# Altium footprint library MergenElektronik_Capacitors_AluminumElectrolytics_THTs.PcbLib: 1 footprints
Each footprint in its own frame and in the unit in brackets; x right, y up, seen from the top. Pads: shape width x height; smd on the part's side, far side on the other; paste and mask are expansions set on the pad; w line width, h text height; cw(c..) or ccw(c..) is an arc to the next point about the centre after c.
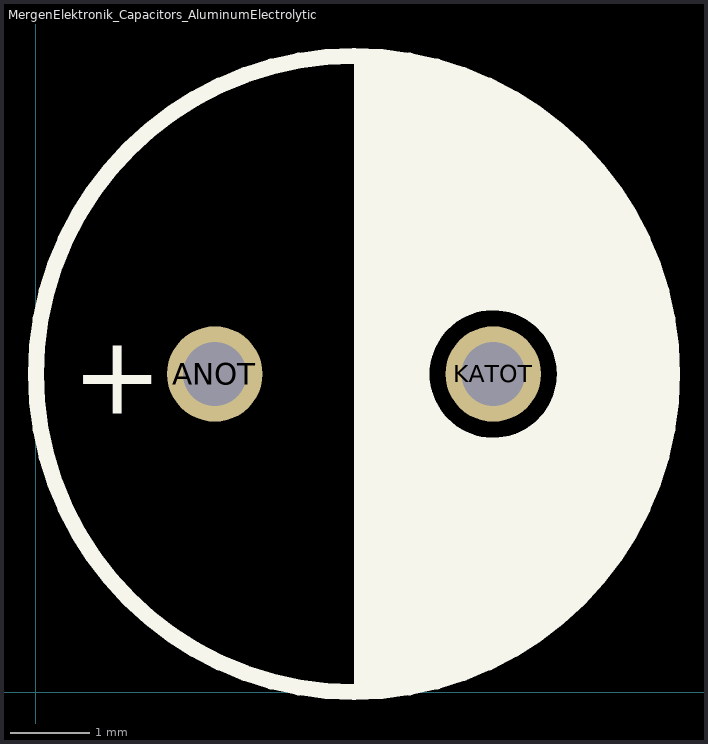
[diagram p0: the footprint, top view; thin cyan lines are the x and y axes]

## MergenElektronik_Capacitors_AluminumElectrolytics_THTs_8x7MM [mm] "8MM Diameter - 7MM Height"
pads (2):
  round 1.2 hole 0.8: ANOT(2.25,4) KATOT(5.75,4)
Top Overlay:
  circle w0.2: c4,4 r4
  circle w0.2: c5.75,4 r0.901
  region: 4,5 4,8 4.6,8 4.7,7.9 5.1,7.9 5.3,7.7 5.6,7.7 5.9,7.4 6.2,7.4 7.3,6.3 7.3,6.2 7.4,6.1 7.4,6 7.7,5.7 7.7,5.3 7.8,5.2 7.8,5
  region: 5.9,7.55 5.75,7.55 5.75,7.35 5.7,7.3 6.1,7.3 6.1,7.35
  region: 4,3 4,0 4.2,0 4.3,0.1 5,0.1 5.1,0.2 5.4,0.2 5.6,0.4 5.8,0.4 6.1,0.7 6.4,0.7 6.9,1.2 7.2,1.5 7.2,1.6 7.5,1.9 7.5,2.1 7.7,2.3 7.7,2.5 7.8,2.6 7.8,2.9 7.9,3
  region: 4,5 4,3 5.7,3 5.6,3.1 5.4,3.1 4.9,3.6 4.9,4.4 5.4,4.9 5.7,4.9 5.7,5
  region: 6.65,3.999 6.65,3 5.6,3 5.5,3.1 6.05,3.1 6.15,3.2 6.2,3.2 6.651,3.651 6.651,4
  region: 6.651,3.651 6.65,3.653 6.65,5.05 5.75,5.05 5.7,5 5.7,4.9 6.1,4.9 6.651,4.349
  region: 7.75,5.05 7.95,4.85 7.95,3.05 7.9,3 7.75,3
  region: 7.2,3.95 7.2,3 6.65,3 6.65,3.95
  region: 7,3.95 7,5 6.7,5 6.65,5.05 6.65,3.95
  region: 7.2,4.05 7.2,4.1 7.2,4.25 7.25,4.25 7.25,5 7,5 7,4.05
  region: 7.3,4.25 7.25,4.25 7.25,5 7.8,5 7.8,4.05 7.3,4.05
  region: 7.2,3.75 7.3,3.75 7.3,3.95 7.5,3.95 7.5,4.05 7.8,4.05 7.8,2.95 7.2,2.95
  lines w0.2: 6.8,4.2 7.5,4.2 7.5,3.95 7.4,4.05 7.025,4.05 6.95,3.975 7.075,3.975 7.1,3.95 ; 7.3,3.5 7.3,4.05 ; 7.55,2.9 7.8,2.9
  text "+" at 0.45,3.5 h1
3D body "MergenElektronik_Capacitors_AluminumElectrolytics_THTs_8x7MM.step": height 7, standoff -19, extent 0,0 8,8